# Altium schematic symbol library SENSORES.SchLib: 5 symbols
Pins are listed as number, name and electrical type; pins without a type are passive.

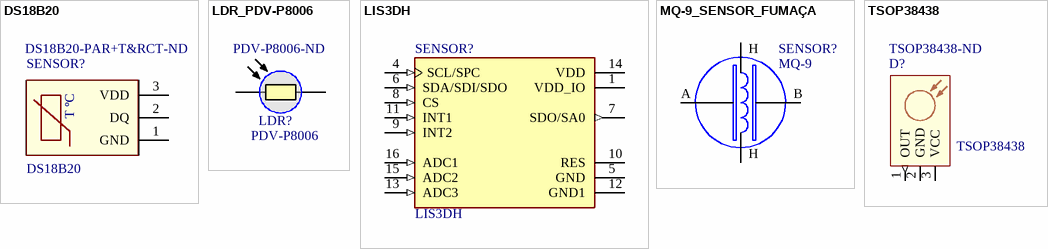
[diagram p0: symbols DS18B20 to TSOP38438]

## DS18B20
designator SENSOR?  Supplier Part Number 1: DS18B20-PAR+T&RCT-ND
Temp Sensor Digital Serial (1-Wire) 3-Pin TO-92 T/R; MPN: DS18B20+; Manufacturer: Maxim; Manufacturer Part Number: DS18B20-PAR+T&R; Fabricante: Maxin Integrated; Max Supply Voltage: 5.5V; Min Supply Voltage: 3V; Resolution: 11b; Operating Supply Current: 1.5mA; Footprint: TO92; Value: DS18B20; ComponentLink1Description: LOJA; ComponentLink1URL: https://www.digikey.com/product-detail/en/maxim-integrated/DS18B20/DS18B20-ND/956983; ComponentLink2Description: DATASHEET; ComponentLink2URL: https://datasheets.maximintegrated.com/en/ds/DS18B20.pdf; Supplier 1: Digi-Key; RoHS: Yes; Category: Temperature and Humidity Sensors; Stock 1: 1700; Pricing 1: 1=4,93000, 10=4,42600, 25=4,18440, 100=3,62640, 500=3,16030 (USD); Mount: Through Hole; Case/Package: TO-92-3; Number of Pins: 3; Min Operating Temperature: -55°C; Max Operating Temperature: 125°C; Output Type: Digital; Interface: Serial; Packaging: Tape and Reel; Package Quantity: 1; Max Supply Voltage (DC): 5.5V; Min Supply Voltage (DC): 3V; Lead Free: Lead Free; REACH SVHC: Unknown; ComponentLink3URL: https://datasheet.ciiva.com/12145/ds18b20-par-86897-12145493.pdf?src-supplier=Mouser; ComponentLink3Description: https://datasheet.ciiva.com/12145/ds18b20-par-86897-12145493.pdf?src-supplier=Mouser
footprint DS18B20 (SENSOR DIGITAL -55C-125C TO92-3)
pins: 1 GND (power), 2 DQ, 3 VDD (power)
text: T ºC

## LDR_PDV-P8006
designator LDR?, comment PDV-P8006  Supplier Part Number 1: PDV-P8006-ND
Photocell 80K-240K Ohm 5.10MM; FABRICANTE: Advanced Photonix; Wavelength: 520nm; Rise Time: 60ms; ComponentLink1Description: LOJA; ComponentLink1URL: https://www.digikey.com/products/en?keywords=pdv%208006; FOOTPRINT: PTH RADIAL; MPN: PDV-P8006; VALUE: PDV-P8006; Supplier 1: Digi-Key; Manufacturer: Advanced Photonix; Manufacturer Part Number: PDV-P8006; RoHS: No; Category: Optical Sensors; Stock 1: 1279; Pricing 1: 1=2,22000, 5=2,10000, 10=1,80000, 25=1,44000, 50=1,32000, 100=1,20000, 500=1,05000, 1000=0,93000, 5000=0,87000 (USD); Mount: Through Hole; Case/Package: Radial; Housing Material: Ceramic; Min Operating Temperature: -30°C; Max Operating Temperature: 75°C; Packaging: Bulk; Package Quantity: 500; Diameter: 5.1mm; Height: 2mm; Lead Free: Contains Lead; ComponentLink2URL: https://datasheet.ciiva.com/2819/pdv-p8006-2819544.pdf?src-supplier=Digi-Key; ComponentLink2Description: https://datasheet.ciiva.com/2819/pdv-p8006-2819544.pdf?src-supplier=Digi-Key
footprint LDR_PDV-P8006 (PTH RADIAL P=3.40mm)
pins: 1, 2

## LIS3DH
designator SENSOR?
Supplier 1: Digi-Key; Supplier Part Number 1: 497-10613-1-ND
footprint LIS3DH
pins: 1 VDD_IO (power), 4 SCL/SPC (in), 5 GND (power), 6 SDA/SDI/SDO (in), 7 SDO/SA0 (out), 8 CS (in), 9 INT2 (in), 10 RES (power), 11 INT1 (in), 12 GND1 (power), 13 ADC3 (in), 14 VDD (power), 15 ADC2 (in), 16 ADC1 (in)

## MQ-9_SENSOR_FUMAÇA
designator SENSOR?, comment MQ-9
SENSOR DE FUMAÇA MQ-9 MONOXIDO DE CARBONO CH4，LPG.
footprint MQ-9 (Sensor de fumaça - monóxido de carbono - CH4)
pins: A, B, H, H

## TSOP38438
designator D?  Supplier Part Number 1: TSOP38438-ND
VISHAY         TSOP38438            Infrared Receiver, Remote Control, 38 kHz, 45m, 45 , 2.5 V, 5.5 V, 350 A; Min Supply Voltage: 2.5V; Max Supply Voltage: 5.5V; Nominal Supply Current: 350uA; Output Current: 5mA; Operating Supply Current: 450uA; ComponentLink1Description: DATASHEET; ComponentLink1URL: https://www.vishay.com/docs/82491/tsop382.pdf; ComponentLink2Description: LOJA; ComponentLink2URL: https://www.digikey.com/product-detail/en/vishay-semiconductor-opto-division/TSOP38438/TSOP38438-ND/4073478; Supplier 1: Digi-Key; Manufacturer: Vishay; Manufacturer Part Number: TSOP38438; RoHS: Yes; Category: Optical Sensors; Stock 1: 1903; Pricing 1: 1=1,12000, 5=1,08000, 10=0,87800, 25=0,75600, 50=0,65480, 100=0,59400, 500=0,49950, 1000=0,44550, 5000=0,40500 (USD); Mount: Through Hole; Case/Package: Module; Number of Pins: 3; Min Operating Temperature: -25°C; Max Operating Temperature: 85°C; Package Quantity: 1500; Packaging: Rail/Tube; Sensing Distance: 45m; Orientation: Side View; Length: 5mm; Height: 6.95mm; Width: 4.8mm; Radiation Hardening: No; REACH SVHC: Unknown; ComponentLink3URL: https://datasheet.ciiva.com/11770/0900766b80e56a95-11770103.pdf?src-supplier=RSComponents; ComponentLink3Description: https://datasheet.ciiva.com/11770/0900766b80e56a95-11770103.pdf?src-supplier=RSComponents; ComponentLink4URL: https://datasheet.ciiva.com/15272/tsop382-15272158.pdf?src-supplier=Arrow+Europe; ComponentLink4Description: https://datasheet.ciiva.com/15272/tsop382-15272158.pdf?src-supplier=Arrow+Europe; ComponentLink5URL: https://datasheet.ciiva.com/18490/tsop382-18490310.pdf?src-supplier=Digi-Key; ComponentLink5Description: https://datasheet.ciiva.com/18490/tsop382-18490310.pdf?src-supplier=Digi-Key; ComponentLink6URL: https://datasheet.ciiva.com/26007/tsop382-26007322.pdf?src-supplier=Avnet+Europe; ComponentLink6Description: https://datasheet.ciiva.com/26007/tsop382-26007322.pdf?src-supplier=Avnet+Europe; ComponentLink7URL: https://datasheet.ciiva.com/8078/tsop382-8078149.pdf?src-supplier=Element14; ComponentLink7Description: https://datasheet.ciiva.com/8078/tsop382-8078149.pdf?src-supplier=Element14
footprint TSOP38438 (IR Remote Receiver 38kHz 35m 3-Pin)
pins: 1 OUT (out), 2 GND (power), 3 VCC (power)